# Altium schematic symbol library 2.4   - Atmel系列单片机.SchLib: 3 symbols
Pins are listed as number, name and electrical type; pins without a type are passive.

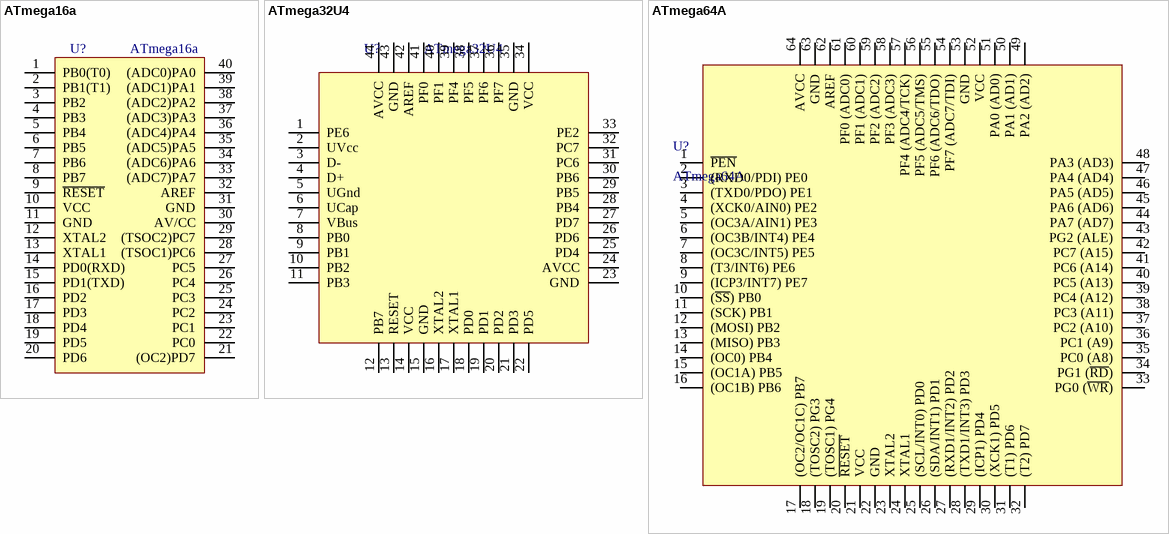
[diagram p0: symbols ATmega16a to ATmega64A]

## ATmega16a
designator U?
AVR单片机; 版权归属: 源创客; BOM名称: AVR单片机; 学习资源: www.ooocke.com
footprint DIP40-600 (52*15.2*4mm(长宽高))
footprint DIP40-600_MH (带底座 52*15.2*4mm(长宽高))
pins: 1 PB0(T0), 2 PB1(T1), 3 PB2, 4 PB3, 5 PB4, 6 PB5, 7 PB6, 8 PB7, 9 ~{RESET}, 10 VCC, 11 GND, 12 XTAL2, 13 XTAL1, 14 PD0(RXD), 15 PD1(TXD), 16 PD2, 17 PD3, 18 PD4, 19 PD5, 20 PD6, 21 (OC2)PD7, 22 PC0, 23 PC1, 24 PC2, 25 PC3, 26 PC4, 27 PC5, 28 (TSOC1)PC6, 29 (TSOC2)PC7, 30 AV/CC, 31 GND, 32 AREF, 33 (ADC7)PA7, 34 (ADC6)PA6, 35 (ADC5)PA5, 36 (ADC4)PA4, 37 (ADC3)PA3, 38 (ADC2)PA2, 39 (ADC1)PA1, 40 (ADC0)PA0

## ATmega32U4
designator U?
AVR单片机; 版权归属: 源创客; BOM名称: AVR单片机; 学习资源: www.ooocke.com
footprint TQFP44 10x10_L (44脚，体宽：10x10mm, 脚距：0.8mm)
footprint TQFP44 10x10_M (44脚，体宽：10x10mm, 脚距：0.8mm)
footprint TQFP44 10x10_N (44脚，体宽：10x10mm, 脚距：0.8mm)
pins: 1 PE6, 2 UVcc, 3 D-, 4 D+, 5 UGnd, 6 UCap, 7 VBus, 8 PB0, 9 PB1, 10 PB2, 11 PB3, 12 PB7, 13 RESET, 14 VCC, 15 GND, 16 XTAL2, 17 XTAL1, 18 PD0, 19 PD1, 20 PD2, 21 PD3, 22 PD5, 23 GND, 24 AVCC, 25 PD4, 26 PD6, 27 PD7, 28 PB4, 29 PB5, 30 PB6, 31 PC6, 32 PC7, 33 PE2, 34 VCC, 35 GND, 36 PF7, 37 PF6, 38 PF5, 39 PF4, 40 PF1, 41 PF0, 42 AREF, 43 GND, 44 AVCC

## ATmega64A
designator U?
AVR单片机
footprint LQFP64-14x14 (14x14mm，0.8mm（蒜米工坊）)
pins: 1 ~{PEN}, 2 (RXD0/PDI) PE0, 3 (TXD0/PDO) PE1, 4 (XCK0/AIN0) PE2, 5 (OC3A/AIN1) PE3, 6 (OC3B/INT4) PE4, 7 (OC3C/INT5) PE5, 8 (T3/INT6) PE6, 9 (ICP3/INT7) PE7, 10 (~{SS}) PB0, 11 (SCK) PB1, 12 (MOSI) PB2, 13 (MISO) PB3, 14 (OC0) PB4, 15 (OC1A) PB5, 16 (OC1B) PB6, 17 (OC2/OC1C) PB7, 18 (TOSC2) PG3, 19 (TOSC1) PG4, 20 ~{RESET}, 21 VCC, 22 GND, 23 XTAL2, 24 XTAL1, 25 (SCL/INT0) PD0, 26 (SDA/INT1) PD1, 27 (RXD1/INT2) PD2, 28 (TXD1/INT3) PD3, 29 (ICP1) PD4, 30 (XCK1) PD5, 31 (T1) PD6, 32 (T2) PD7, 33 PG0 (~{WR}), 34 PG1 (~{RD}), 35 PC0 (A8), 36 PC1 (A9), 37 PC2 (A10), 38 PC3 (A11), 39 PC4 (A12), 40 PC5 (A13), 41 PC6 (A14), 42 PC7 (A15), 43 PG2 (ALE), 44 PA7 (AD7), 45 PA6 (AD6), 46 PA5 (AD5), 47 PA4 (AD4), 48 PA3 (AD3), 49 PA2 (AD2), 50 PA1 (AD1), 51 PA0 (AD0), 52 VCC, 53 GND, 54 PF7 (ADC7/TDI), 55 PF6 (ADC6/TDO), 56 PF5 (ADC5/TMS), 57 PF4 (ADC4/TCK), 58 PF3 (ADC3), 59 PF2 (ADC2), 60 PF1 (ADC1), 61 PF0 (ADC0), 62 AREF, 63 GND, 64 AVCC